# Altium footprint library MediaControllerPcbLib.PcbLib: 28 footprints (part 1 of 2)
Each footprint in its own frame and in the unit in brackets; x right, y up, seen from the top. Pads: shape width x height; smd on the part's side, far side on the other; paste and mask are expansions set on the pad; w line width, h text height; cw(c..) or ccw(c..) is an arc to the next point about the centre after c.
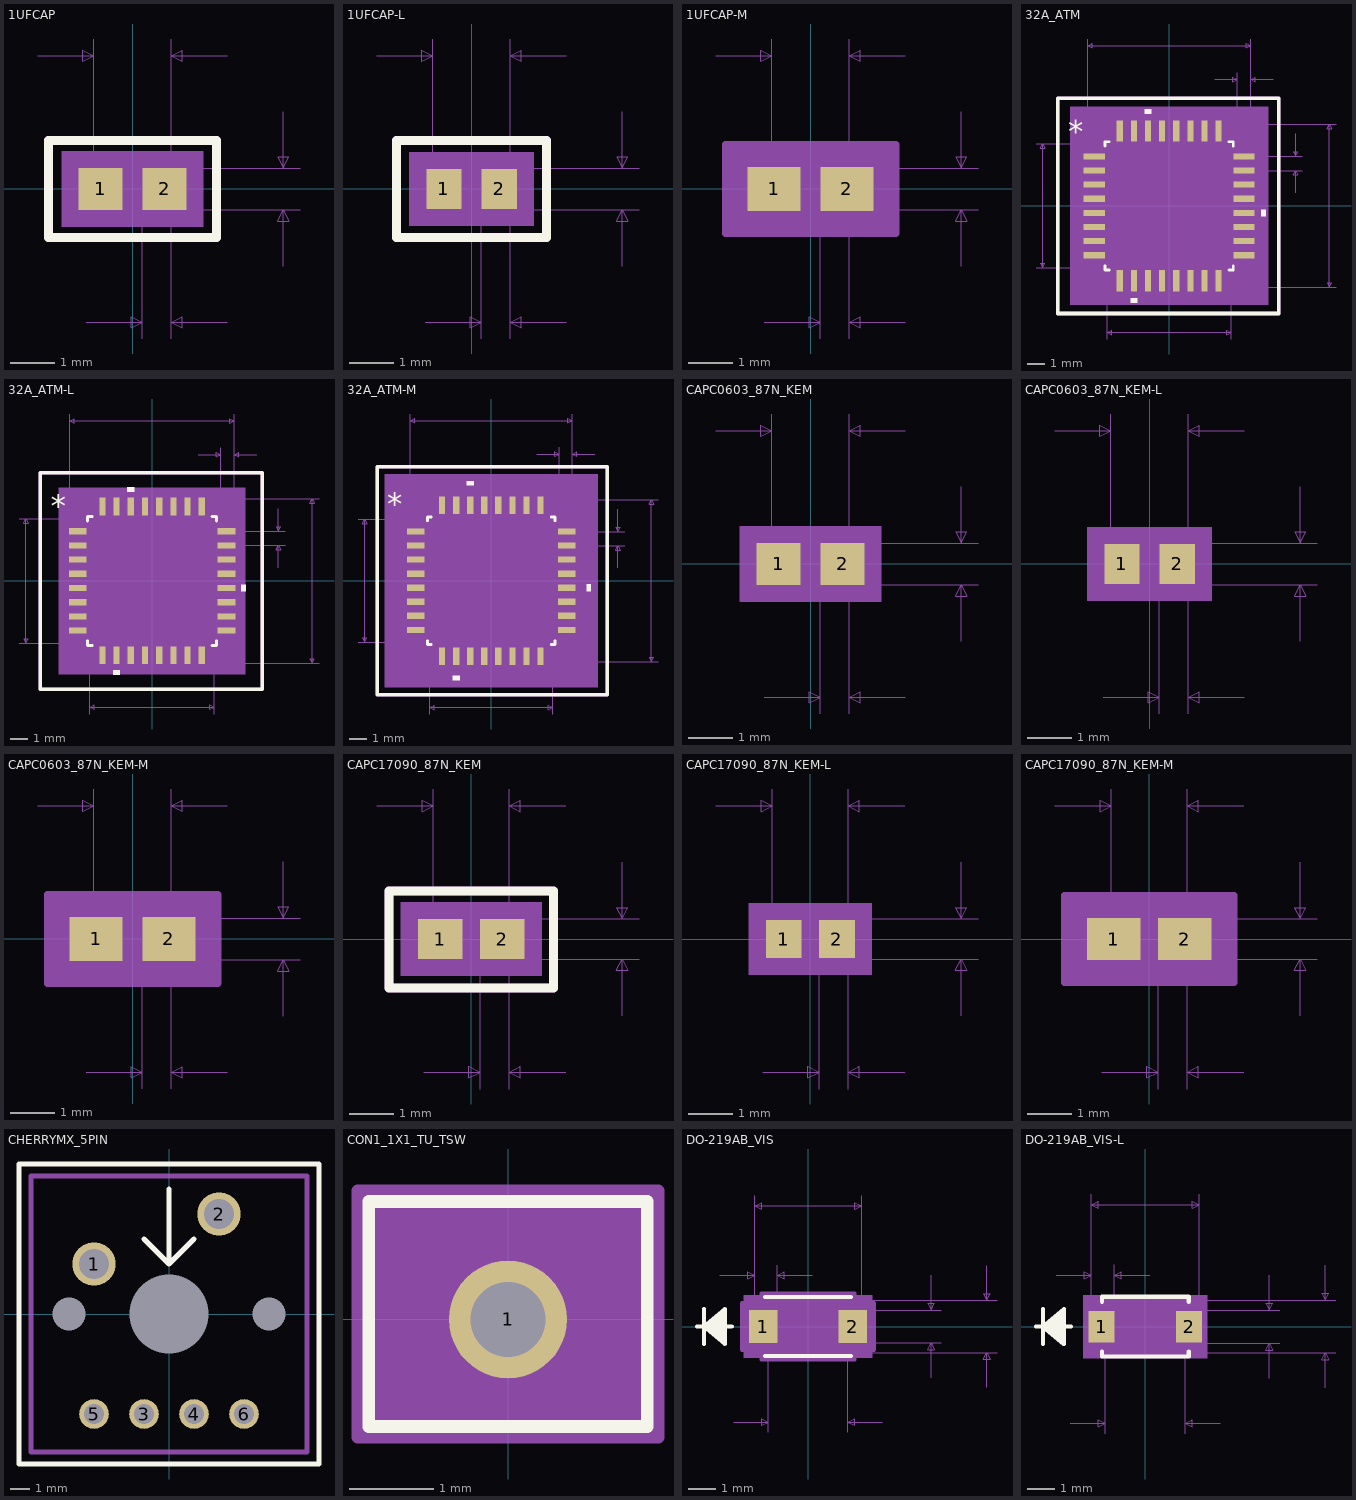
[diagram p0: the footprints below, top view; thin cyan lines are the x and y axes]

## 1UFCAP [mm]
pads (2):
  rect 1x0.95 smd paste+0 mask+0: 1(-0.725,0) 2(0.725,0)
Top Overlay:
  lines w0.2: -1.9,-1.1 -1.9,1.1 1.9,1.1 1.9,-1.1 -1.9,-1.1
Mechanical 5:
  region: 1.606,-0.856 -1.606,-0.856 -1.606,0.856 1.606,0.856
Mechanical 7:
  lines w0.025: -2.145,3.015 -0.875,3.015 ; -1.045,-3.015 0.225,-3.015 ; -0.875,0 -0.875,3.396 ; 0,-0.475 3.796,-0.475 ; 0,0.475 3.796,0.475 ; 0.225,-3.396 0.225,0 ; 0.875,-3.396 0.875,0 0.875,3.396 ; 2.145,-3.015 0.875,-3.015 ; 2.145,3.015 0.875,3.015 ; 3.415,-1.745 3.415,-0.475 ; 3.415,1.745 3.415,0.475 ; -0.875,3.015 -1.129,3.142 -1.129,2.888 -0.875,3.015 ; 0.225,-3.015 -0.029,-2.888 -0.029,-3.142 0.225,-3.015 ; 0.875,-3.015 1.129,-2.888 1.129,-3.142 0.875,-3.015 ; 0.875,3.015 1.129,3.142 1.129,2.888 0.875,3.015 ; 3.415,-0.475 3.288,-0.729 3.542,-0.729 3.415,-0.475 ; 3.415,0.475 3.288,0.729 3.542,0.729 3.415,0.475
  text "Default Padstyle: r100_95" at -7.938,-7.333 h1.27
  text "Alternate 1 Padstyle: b152_229h76" at -10.477,-9.873 h1.27
  text "Alternate 2 Padstyle: b229_152h76" at -10.477,-12.413 h1.27
  text "0.037in/0.95mm" at 3.923,-0.318 h0.64
  text "0.069in/1.75mm" at -2.222,3.523 h0.64
  text "0.02in/0.5mm" at -1.355,-4.158 h0.64
Mechanical 13:
  lines w0.025: -0.875,-0.475 -0.875,0.475 ; -0.875,-0.475 -0.375,-0.475 -0.375,0.475 -0.875,0.475 ; -0.875,-0.475 0.875,-0.475 ; -0.875,-0.475 -0.875,0.475 ; -0.875,0.475 0.875,0.475 ; 0.875,-0.475 0.375,-0.475 0.375,0.475 0.875,0.475 ; 0.875,-0.475 0.875,0.475 ; 0.875,-0.475 0.875,0.475
Mechanical 15:
  region: 1.479,-0.729 -1.479,-0.729 -1.479,0.729 1.479,0.729
  lines w0.152: -1.479,-0.729 -1.479,0.729 1.479,0.729 1.479,-0.729 -1.479,-0.729
Mechanical 29:
  lines w0.2: -1.9,-1.1 -1.9,1.1 1.9,1.1 1.9,-1.1 -1.9,-1.1
  text "`.Designator`" at -1.4,-0.167 h0.7
3D body "C0603C105K8PACTU.step": height 0.91, standoff 0.01, extent -0.875,-0.475 0.875,0.475
3D body: height 0.25, standoff 0, extent 0,0 0.254,0.254

## 1UFCAP-L [mm]
pads (2):
  rect 0.8x0.9 smd paste+0 mask+0: 1(-0.625,0) 2(0.625,0)
Top Overlay:
  lines w0.2: -1.7,-1.1 -1.7,1.1 1.7,1.1 1.7,-1.1 -1.7,-1.1
Mechanical 5:
  region: 1.406,-0.831 -1.406,-0.831 -1.406,0.831 1.406,0.831
Mechanical 7:
  lines w0.025: -2.145,3.015 -0.875,3.015 ; -1.045,-3.015 0.225,-3.015 ; -0.875,0 -0.875,3.396 ; 0,-0.475 3.796,-0.475 ; 0,0.475 3.796,0.475 ; 0.225,-3.396 0.225,0 ; 0.875,-3.396 0.875,0 0.875,3.396 ; 2.145,-3.015 0.875,-3.015 ; 2.145,3.015 0.875,3.015 ; 3.415,-1.745 3.415,-0.475 ; 3.415,1.745 3.415,0.475 ; -0.875,3.015 -1.129,2.888 -1.129,3.142 -0.875,3.015 ; 0.225,-3.015 -0.029,-3.142 -0.029,-2.888 0.225,-3.015 ; 0.875,-3.015 1.129,-3.142 1.129,-2.888 0.875,-3.015 ; 0.875,3.015 1.129,2.888 1.129,3.142 0.875,3.015 ; 3.415,-0.475 3.542,-0.729 3.288,-0.729 3.415,-0.475 ; 3.415,0.475 3.542,0.729 3.288,0.729 3.415,0.475
  text "0.02in/0.5mm" at -1.355,-4.158 h0.64
  text "0.069in/1.75mm" at -2.222,3.523 h0.64
  text "0.037in/0.95mm" at 3.923,-0.318 h0.64
  text "Alternate 2 Padstyle: b229_152h76" at -10.477,-12.388 h1.27
  text "Alternate 1 Padstyle: b152_229h76" at -10.477,-9.848 h1.27
  text "Default Padstyle: r80_90" at -7.62,-7.308 h1.27
Mechanical 13:
  lines w0.025: -0.875,-0.475 -0.875,0.475 ; -0.875,-0.475 0.875,-0.475 ; -0.875,-0.475 -0.375,-0.475 -0.375,0.475 -0.875,0.475 ; -0.875,-0.475 -0.875,0.475 ; -0.875,0.475 0.875,0.475 ; 0.875,-0.475 0.875,0.475 ; 0.875,-0.475 0.875,0.475 ; 0.875,-0.475 0.375,-0.475 0.375,0.475 0.875,0.475
Mechanical 15:
  region: 1.127,-0.552 -1.127,-0.552 -1.127,0.552 1.127,0.552
  lines w0.152: -1.127,-0.552 1.127,-0.552 1.127,0.552 -1.127,0.552 -1.127,-0.552
Mechanical 29:
  lines w0.2: -1.7,-1.1 -1.7,1.1 1.7,1.1 1.7,-1.1 -1.7,-1.1
  text "`.Designator`" at -1.3,-0.167 h0.7
3D body "C0603C105K8PACTU.step": height 0.91, standoff 0.01, extent -0.875,-0.475 0.875,0.475
3D body: height 0.25, standoff 0, extent 0,0 0.254,0.254

## 1UFCAP-M [mm]
pads (2):
  rect 1.2x1 smd paste+0 mask+0: 1(-0.825,0) 2(0.825,0)
Mechanical 5:
  region: 1.806,-0.881 -1.806,-0.881 -1.806,0.881 1.806,0.881
Mechanical 7:
  lines w0.025: -2.145,3.015 -0.875,3.015 ; -1.045,-3.015 0.225,-3.015 ; -0.875,0 -0.875,3.396 ; 0,-0.475 3.796,-0.475 ; 0,0.475 3.796,0.475 ; 0.225,-3.396 0.225,0 ; 0.875,-3.396 0.875,0 0.875,3.396 ; 2.145,-3.015 0.875,-3.015 ; 2.145,3.015 0.875,3.015 ; 3.415,-1.745 3.415,-0.475 ; 3.415,1.745 3.415,0.475 ; -0.875,3.015 -1.129,3.142 -1.129,2.888 -0.875,3.015 ; 0.225,-3.015 -0.029,-2.888 -0.029,-3.142 0.225,-3.015 ; 0.875,-3.015 1.129,-2.888 1.129,-3.142 0.875,-3.015 ; 0.875,3.015 1.129,3.142 1.129,2.888 0.875,3.015 ; 3.415,-0.475 3.288,-0.729 3.542,-0.729 3.415,-0.475 ; 3.415,0.475 3.288,0.729 3.542,0.729 3.415,0.475
  text "Default Padstyle: r120_100" at -8.255,-7.358 h1.27
  text "Alternate 1 Padstyle: b152_229h76" at -10.477,-9.898 h1.27
  text "Alternate 2 Padstyle: b229_152h76" at -10.477,-12.438 h1.27
  text "0.037in/0.95mm" at 3.923,-0.318 h0.64
  text "0.069in/1.75mm" at -2.222,3.523 h0.64
  text "0.02in/0.5mm" at -1.355,-4.158 h0.64
Mechanical 13:
  lines w0.025: -0.875,-0.475 -0.875,0.475 ; -0.875,-0.475 -0.375,-0.475 -0.375,0.475 -0.875,0.475 ; -0.875,-0.475 0.875,-0.475 ; -0.875,-0.475 -0.875,0.475 ; -0.875,0.475 0.875,0.475 ; 0.875,-0.475 0.375,-0.475 0.375,0.475 0.875,0.475 ; 0.875,-0.475 0.875,0.475 ; 0.875,-0.475 0.875,0.475
Mechanical 15:
  region: 1.933,-1.008 -1.933,-1.008 -1.933,1.008 1.933,1.008
  lines w0.152: -1.933,-1.008 -1.933,1.008 1.933,1.008 1.933,-1.008 -1.933,-1.008
3D body "C0603C105K8PACTU.step": height 0.91, standoff 0.01, extent -0.875,-0.475 0.875,0.475
3D body: height 0.25, standoff 0, extent 0,0 0.254,0.254

## 32A_ATM [mm]
pads (32):
  rect 1.2x0.35 smd: 1(-4.242,2.8) 2(-4.242,2) 3(-4.242,1.2) 4(-4.242,0.4) 5(-4.242,-0.4) 6(-4.242,-1.2) 7(-4.242,-2) 8(-4.242,-2.8) 17(4.242,-2.8) 18(4.242,-2) 19(4.242,-1.2) 20(4.242,-0.4) 21(4.242,0.4) 22(4.242,1.2) 23(4.242,2) 24(4.242,2.8)
  rect 0.35x1.2 smd: 9(-2.8,-4.242) 10(-2,-4.242) 11(-1.2,-4.242) 12(-0.4,-4.242) 13(0.4,-4.242) 14(1.2,-4.242) 15(2,-4.242) 16(2.8,-4.242) 25(2.8,4.242) 26(2,4.242) 27(1.2,4.242) 28(0.4,4.242) 29(-0.4,4.242) 30(-1.2,4.242) 31(-2,4.242) 32(-2.8,4.242)
Top Overlay:
  region: -1.81,-5.227 -2.191,-5.227 -2.191,-5.481 -1.81,-5.481
  region: 5.227,-0.209 5.481,-0.209 5.481,-0.59 5.227,-0.59
  region: -1.01,5.227 -1.391,5.227 -1.391,5.481 -1.01,5.481
  lines w0.152: -3.632,-3.391 -3.632,-3.632 -3.391,-3.632 ; -3.632,3.391 -3.632,3.632 -3.391,3.632 ; 3.391,-3.632 3.632,-3.632 3.632,-3.391 ; 3.391,3.632 3.632,3.632 3.632,3.391
  lines w0.2: -6.3,-6.1 6.2,-6.1 6.2,6.1 -6.3,6.1 -6.3,-6.1
  text "*" at -5.725,3.6 h1.27
Mechanical 5:
  region: 5.608,-5.608 -5.608,-5.608 -5.608,5.608 5.608,5.608
Mechanical 7:
  lines w0.025: -7.544,-3.505 -2.8,-3.505 ; -7.544,3.505 -2.8,3.505 ; -4.623,2.8 -4.623,9.449 ; -3.505,-7.544 -3.505,-2.8 ; 2.591,7.163 3.861,7.163 ; 2.8,-4.623 9.449,-4.623 ; 2.8,4.623 9.449,4.623 ; 3.505,-7.544 3.505,-2.8 ; 3.861,2.8 3.861,7.544 ; 4.242,2 7.544,2 ; 4.242,2.8 7.544,2.8 ; 4.623,7.544 4.623,2.8 4.623,9.449 ; 5.893,7.163 4.623,7.163 ; 7.163,0.73 7.163,2 ; 7.163,4.07 7.163,2.8 ; -7.163,-3.505 -7.163,3.505 ; -7.163,-3.505 -7.29,-3.251 -7.036,-3.251 -7.163,-3.505 ; -7.163,3.505 -7.29,3.251 -7.036,3.251 -7.163,3.505 ; -4.623,9.068 4.623,9.068 ; -4.623,9.068 -4.369,9.195 -4.369,8.941 -4.623,9.068 ; -3.505,-7.163 3.505,-7.163 ; -3.505,-7.163 -3.251,-7.036 -3.251,-7.29 -3.505,-7.163 ; 3.505,-7.163 3.251,-7.036 3.251,-7.29 3.505,-7.163 ; 3.861,7.163 3.607,7.29 3.607,7.036 3.861,7.163 ; 4.623,7.163 4.877,7.29 4.877,7.036 4.623,7.163 ; 4.623,9.068 4.369,9.195 4.369,8.941 4.623,9.068 ; 7.163,2 7.036,1.746 7.29,1.746 7.163,2 ; 7.163,2.8 7.036,3.054 7.29,3.054 7.163,2.8 ; 9.068,-4.623 9.068,4.623 ; 9.068,-4.623 8.941,-4.369 9.195,-4.369 9.068,-4.623 ; 9.068,4.623 8.941,4.369 9.195,4.369 9.068,4.623
  text "Default Horiz Padstyle: r52_146" at -9.842,-11.608 h1.27
  text "Default Vert Padstyle: r52_146" at -9.525,-12.878 h1.27
  text "0.031in/0.8mm" at 7.671,2.083 h0.64
  text "0.03in/0.762mm" at 2.019,7.671 h0.64
  text "0.364in/9.246mm" at -2.381,9.576 h0.64
  text "0.364in/9.246mm" at 9.576,-0.318 h0.64
  text "0.276in/7.01mm" at -2.222,-8.306 h0.64
  text "0.276in/7.01mm" at -12.116,-0.318 h0.64
Mechanical 13:
  lines w0.025: -3.505,2.235 -2.235,3.505 ; -4.623,-3.029 -4.623,-2.571 -3.505,-2.571 -3.505,-3.029 -4.623,-3.029 ; -4.623,-2.229 -4.623,-1.771 -3.505,-1.771 -3.505,-2.229 -4.623,-2.229 ; -4.623,-1.429 -4.623,-0.971 -3.505,-0.971 -3.505,-1.429 -4.623,-1.429 ; -4.623,-0.629 -4.623,-0.171 -3.505,-0.171 -3.505,-0.629 -4.623,-0.629 ; -4.623,0.171 -4.623,0.629 -3.505,0.629 -3.505,0.171 -4.623,0.171 ; -4.623,0.971 -4.623,1.429 -3.505,1.429 -3.505,0.971 -4.623,0.971 ; -4.623,1.771 -4.623,2.229 -3.505,2.229 -3.505,1.771 -4.623,1.771 ; -4.623,2.571 -4.623,3.029 -3.505,3.029 -3.505,2.571 -4.623,2.571 ; -3.505,-3.505 3.505,-3.505 3.505,3.505 -3.505,3.505 -3.505,-3.505 ; -3.029,-4.623 -3.029,-3.505 -2.571,-3.505 -2.571,-4.623 -3.029,-4.623 ; -3.029,3.505 -2.571,3.505 -2.571,4.623 -3.029,4.623 -3.029,3.505 ; -2.229,-4.623 -2.229,-3.505 -1.771,-3.505 -1.771,-4.623 -2.229,-4.623 ; -2.229,3.505 -1.771,3.505 -1.771,4.623 -2.229,4.623 -2.229,3.505 ; -1.429,-4.623 -1.429,-3.505 -0.971,-3.505 -0.971,-4.623 -1.429,-4.623 ; -1.429,3.505 -0.971,3.505 -0.971,4.623 -1.429,4.623 -1.429,3.505 ; -0.629,-4.623 -0.629,-3.505 -0.171,-3.505 -0.171,-4.623 -0.629,-4.623 ; -0.629,3.505 -0.171,3.505 -0.171,4.623 -0.629,4.623 -0.629,3.505 ; 0.171,-4.623 0.171,-3.505 0.629,-3.505 0.629,-4.623 0.171,-4.623 ; 0.171,3.505 0.629,3.505 0.629,4.623 0.171,4.623 0.171,3.505 ; 0.971,-4.623 0.971,-3.505 1.429,-3.505 1.429,-4.623 0.971,-4.623 ; 0.971,3.505 1.429,3.505 1.429,4.623 0.971,4.623 0.971,3.505 ; 1.771,-4.623 1.771,-3.505 2.229,-3.505 2.229,-4.623 1.771,-4.623 ; 1.771,3.505 2.229,3.505 2.229,4.623 1.771,4.623 1.771,3.505 ; 2.571,-4.623 2.571,-3.505 3.029,-3.505 3.029,-4.623 2.571,-4.623 ; 2.571,3.505 3.029,3.505 3.029,4.623 2.571,4.623 2.571,3.505 ; 3.505,-3.029 3.505,-2.571 4.623,-2.571 4.623,-3.029 3.505,-3.029 ; 3.505,-2.229 3.505,-1.771 4.623,-1.771 4.623,-2.229 3.505,-2.229 ; 3.505,-1.429 3.505,-0.971 4.623,-0.971 4.623,-1.429 3.505,-1.429 ; 3.505,-0.629 3.505,-0.171 4.623,-0.171 4.623,-0.629 3.505,-0.629 ; 3.505,0.171 3.505,0.629 4.623,0.629 4.623,0.171 3.505,0.171 ; 3.505,0.971 3.505,1.429 4.623,1.429 4.623,0.971 3.505,0.971 ; 3.505,1.771 3.505,2.229 4.623,2.229 4.623,1.771 3.505,1.771 ; 3.505,2.571 3.505,3.029 4.623,3.029 4.623,2.571 3.505,2.571
  text "*" at -3.32,2.184 h1.27
Mechanical 15:
  region: -3.308,-3.759 -3.759,-3.759 -3.759,-3.308 -5.227,-3.308 -5.227,3.308 -3.759,3.308 -3.759,3.759 -3.308,3.759 -3.308,5.227 3.308,5.227 3.308,3.759 3.759,3.759 3.759,3.308 5.227,3.308 5.227,-3.308 3.759,-3.308 3.759,-3.759 3.308,-3.759 3.308,-5.227 -3.308,-5.227
  lines w0.152: -5.227,-3.308 -3.759,-3.308 -3.759,-3.759 -3.308,-3.759 -3.308,-5.227 3.308,-5.227 3.308,-3.759 3.759,-3.759 3.759,-3.308 5.227,-3.308 5.227,3.308 3.759,3.308 3.759,3.759 3.308,3.759 3.308,5.227 -3.308,5.227 -3.308,3.759 -3.759,3.759 -3.759,3.308 -5.227,3.308 -5.227,-3.308
Mechanical 29:
  region: -1.01,5.221 -1.391,5.221 -1.391,5.475 -1.01,5.475
  region: 5.221,-0.209 5.475,-0.209 5.475,-0.59 5.221,-0.59
  region: -1.81,-5.225 -2.191,-5.225 -2.191,-5.479 -1.81,-5.479
  lines w0.152: -3.632,-3.411 -3.632,-3.632 -3.411,-3.632 ; -3.632,3.411 -3.632,3.632 -3.411,3.632 ; 3.411,-3.632 3.632,-3.632 3.632,-3.411 ; 3.411,3.632 3.632,3.632 3.632,3.411
  lines w0.2: -6.3,-6.1 6.2,-6.1 6.2,6.1 -6.3,6.1 -6.3,-6.1
  text "*" at -5.8,3.6 h1.27
  text "`.Designator`" at -3.3,-0.167 h0.7
3D body "32A_ATM.step": height 1.2, standoff 0, extent -4.623,-4.623 4.623,4.623
3D body: height 0.25, standoff 0, extent 0,0 0.254,0.254

## 32A_ATM-L [mm]
pads (32):
  rect 1x0.35 smd: 1(-4.192,2.8) 2(-4.192,2) 3(-4.192,1.2) 4(-4.192,0.4) 5(-4.192,-0.4) 6(-4.192,-1.2) 7(-4.192,-2) 8(-4.192,-2.8) 17(4.192,-2.8) 18(4.192,-2) 19(4.192,-1.2) 20(4.192,-0.4) 21(4.192,0.4) 22(4.192,1.2) 23(4.192,2) 24(4.192,2.8)
  rect 0.35x1 smd: 9(-2.8,-4.192) 10(-2,-4.192) 11(-1.2,-4.192) 12(-0.4,-4.192) 13(0.4,-4.192) 14(1.2,-4.192) 15(2,-4.192) 16(2.8,-4.192) 25(2.8,4.192) 26(2,4.192) 27(1.2,4.192) 28(0.4,4.192) 29(-0.4,4.192) 30(-1.2,4.192) 31(-2,4.192) 32(-2.8,4.192)
Top Overlay:
  region: -1.01,5.027 -1.391,5.027 -1.391,5.281 -1.01,5.281
  region: 5.027,-0.209 5.281,-0.209 5.281,-0.59 5.027,-0.59
  region: -1.81,-5.027 -2.191,-5.027 -2.191,-5.281 -1.81,-5.281
  lines w0.152: -3.632,-3.371 -3.632,-3.632 -3.371,-3.632 ; -3.632,3.371 -3.632,3.632 -3.371,3.632 ; 3.371,-3.632 3.632,-3.632 3.632,-3.371 ; 3.371,3.632 3.632,3.632 3.632,3.371
  lines w0.2: -6.3,-6.1 6.2,-6.1 6.2,6.1 -6.3,6.1 -6.3,-6.1
  text "*" at -5.7,3.596 h1.27
Mechanical 5:
  region: 5.255,-5.255 -5.255,-5.255 -5.255,5.255 5.255,5.255
Mechanical 7:
  lines w0.025: -7.494,-3.505 -2.8,-3.505 ; -7.494,3.505 -2.8,3.505 ; -4.623,2.8 -4.623,9.399 ; -3.505,-7.494 -3.505,-2.8 ; 2.591,7.113 3.861,7.113 ; 2.8,-4.623 9.399,-4.623 ; 2.8,4.623 9.399,4.623 ; 3.505,-7.494 3.505,-2.8 ; 3.861,2.8 3.861,7.494 ; 4.192,2 7.494,2 ; 4.192,2.8 7.494,2.8 ; 4.623,7.494 4.623,2.8 4.623,9.399 ; 5.893,7.113 4.623,7.113 ; 7.113,0.73 7.113,2 ; 7.113,4.07 7.113,2.8 ; -7.113,-3.505 -6.986,-3.251 -7.24,-3.251 -7.113,-3.505 ; -7.113,-3.505 -7.113,3.505 ; -7.113,3.505 -6.986,3.251 -7.24,3.251 -7.113,3.505 ; -4.623,9.018 -4.369,8.891 -4.369,9.145 -4.623,9.018 ; -4.623,9.018 4.623,9.018 ; -3.505,-7.113 -3.251,-7.24 -3.251,-6.986 -3.505,-7.113 ; -3.505,-7.113 3.505,-7.113 ; 3.505,-7.113 3.251,-7.24 3.251,-6.986 3.505,-7.113 ; 3.861,7.113 3.607,6.986 3.607,7.24 3.861,7.113 ; 4.623,7.113 4.877,6.986 4.877,7.24 4.623,7.113 ; 4.623,9.018 4.369,8.891 4.369,9.145 4.623,9.018 ; 7.113,2 7.24,1.746 6.986,1.746 7.113,2 ; 7.113,2.8 7.24,3.054 6.986,3.054 7.113,2.8 ; 9.018,-4.623 9.145,-4.369 8.891,-4.369 9.018,-4.623 ; 9.018,-4.623 9.018,4.623 ; 9.018,4.623 9.145,4.369 8.891,4.369 9.018,4.623
  text "0.276in/7.01mm" at -12.066,-0.318 h0.64
  text "0.276in/7.01mm" at -2.222,-8.256 h0.64
  text "0.364in/9.246mm" at 9.526,-0.318 h0.64
  text "0.364in/9.246mm" at -2.381,9.526 h0.64
  text "0.03in/0.762mm" at 2.019,7.621 h0.64
  text "0.031in/0.8mm" at 7.621,2.083 h0.64
  text "Default Vert Padstyle: r48_116" at -9.525,-12.828 h1.27
  text "Default Horiz Padstyle: r48_116" at -9.842,-11.558 h1.27
Mechanical 13:
  lines w0.025: -3.505,2.235 -2.235,3.505 ; -4.623,-3.029 -3.505,-3.029 -3.505,-2.571 -4.623,-2.571 -4.623,-3.029 ; -4.623,-2.229 -3.505,-2.229 -3.505,-1.771 -4.623,-1.771 -4.623,-2.229 ; -4.623,-1.429 -3.505,-1.429 -3.505,-0.971 -4.623,-0.971 -4.623,-1.429 ; -4.623,-0.629 -3.505,-0.629 -3.505,-0.171 -4.623,-0.171 -4.623,-0.629 ; -4.623,0.171 -3.505,0.171 -3.505,0.629 -4.623,0.629 -4.623,0.171 ; -4.623,0.971 -3.505,0.971 -3.505,1.429 -4.623,1.429 -4.623,0.971 ; -4.623,1.771 -3.505,1.771 -3.505,2.229 -4.623,2.229 -4.623,1.771 ; -4.623,2.571 -3.505,2.571 -3.505,3.029 -4.623,3.029 -4.623,2.571 ; -3.505,-3.505 -3.505,3.505 3.505,3.505 3.505,-3.505 -3.505,-3.505 ; -3.029,-4.623 -2.571,-4.623 -2.571,-3.505 -3.029,-3.505 -3.029,-4.623 ; -3.029,3.505 -3.029,4.623 -2.571,4.623 -2.571,3.505 -3.029,3.505 ; -2.229,-4.623 -1.771,-4.623 -1.771,-3.505 -2.229,-3.505 -2.229,-4.623 ; -2.229,3.505 -2.229,4.623 -1.771,4.623 -1.771,3.505 -2.229,3.505 ; -1.429,-4.623 -0.971,-4.623 -0.971,-3.505 -1.429,-3.505 -1.429,-4.623 ; -1.429,3.505 -1.429,4.623 -0.971,4.623 -0.971,3.505 -1.429,3.505 ; -0.629,-4.623 -0.171,-4.623 -0.171,-3.505 -0.629,-3.505 -0.629,-4.623 ; -0.629,3.505 -0.629,4.623 -0.171,4.623 -0.171,3.505 -0.629,3.505 ; 0.171,-4.623 0.629,-4.623 0.629,-3.505 0.171,-3.505 0.171,-4.623 ; 0.171,3.505 0.171,4.623 0.629,4.623 0.629,3.505 0.171,3.505 ; 0.971,-4.623 1.429,-4.623 1.429,-3.505 0.971,-3.505 0.971,-4.623 ; 0.971,3.505 0.971,4.623 1.429,4.623 1.429,3.505 0.971,3.505 ; 1.771,-4.623 2.229,-4.623 2.229,-3.505 1.771,-3.505 1.771,-4.623 ; 1.771,3.505 1.771,4.623 2.229,4.623 2.229,3.505 1.771,3.505 ; 2.571,-4.623 3.029,-4.623 3.029,-3.505 2.571,-3.505 2.571,-4.623 ; 2.571,3.505 2.571,4.623 3.029,4.623 3.029,3.505 2.571,3.505 ; 3.505,-3.029 4.623,-3.029 4.623,-2.571 3.505,-2.571 3.505,-3.029 ; 3.505,-2.229 4.623,-2.229 4.623,-1.771 3.505,-1.771 3.505,-2.229 ; 3.505,-1.429 4.623,-1.429 4.623,-0.971 3.505,-0.971 3.505,-1.429 ; 3.505,-0.629 4.623,-0.629 4.623,-0.171 3.505,-0.171 3.505,-0.629 ; 3.505,0.171 4.623,0.171 4.623,0.629 3.505,0.629 3.505,0.171 ; 3.505,0.971 4.623,0.971 4.623,1.429 3.505,1.429 3.505,0.971 ; 3.505,1.771 4.623,1.771 4.623,2.229 3.505,2.229 3.505,1.771 ; 3.505,2.571 4.623,2.571 4.623,3.029 3.505,3.029 3.505,2.571
  text "*" at -3.42,2.184 h1.27
Mechanical 15:
  region: -3.003,-3.607 -3.607,-3.607 -3.607,-3.003 -4.874,-3.003 -4.874,3.003 -3.607,3.003 -3.607,3.607 -3.003,3.607 -3.003,4.874 3.003,4.874 3.003,3.607 3.607,3.607 3.607,3.003 4.874,3.003 4.874,-3.003 3.607,-3.003 3.607,-3.607 3.003,-3.607 3.003,-4.874 -3.003,-4.874
  lines w0.152: -4.874,-3.003 -4.874,3.003 -3.607,3.003 -3.607,3.607 -3.003,3.607 -3.003,4.874 3.003,4.874 3.003,3.607 3.607,3.607 3.607,3.003 4.874,3.003 4.874,-3.003 3.607,-3.003 3.607,-3.607 3.003,-3.607 3.003,-4.874 -3.003,-4.874 -3.003,-3.607 -3.607,-3.607 -3.607,-3.003 -4.874,-3.003
Mechanical 29:
  region: -1.81,-5.025 -2.191,-5.025 -2.191,-5.279 -1.81,-5.279
  region: 5,-0.209 5.254,-0.209 5.254,-0.59 5,-0.59
  region: -1.01,5.025 -1.391,5.025 -1.391,5.279 -1.01,5.279
  lines w0.152: -3.632,-3.411 -3.632,-3.632 -3.411,-3.632 ; -3.632,3.411 -3.632,3.632 -3.411,3.632 ; 3.411,-3.632 3.632,-3.632 3.632,-3.411 ; 3.411,3.632 3.632,3.632 3.632,3.411
  lines w0.2: -6.3,-6.1 -6.3,6.1 6.2,6.1 6.2,-6.1 -6.3,-6.1
  text "*" at -5.775,3.6 h1.27
  text "`.Designator`" at -3.3,-0.167 h0.7
3D body "32A_ATM.step": height 1.2, standoff 0, extent -4.623,-4.623 4.623,4.623
3D body: height 0.25, standoff 0, extent 0,0 0.254,0.254

## 32A_ATM-M [mm]
pads (32):
  rect 1x0.35 smd: 1(-4.292,2.8) 2(-4.292,2) 3(-4.292,1.2) 4(-4.292,0.4) 5(-4.292,-0.4) 6(-4.292,-1.2) 7(-4.292,-2) 8(-4.292,-2.8) 17(4.292,-2.8) 18(4.292,-2) 19(4.292,-1.2) 20(4.292,-0.4) 21(4.292,0.4) 22(4.292,1.2) 23(4.292,2) 24(4.292,2.8)
  rect 0.35x1 smd: 9(-2.8,-4.292) 10(-2,-4.292) 11(-1.2,-4.292) 12(-0.4,-4.292) 13(0.4,-4.292) 14(1.2,-4.292) 15(2,-4.292) 16(2.8,-4.292) 25(2.8,4.292) 26(2,4.292) 27(1.2,4.292) 28(0.4,4.292) 29(-0.4,4.292) 30(-1.2,4.292) 31(-2,4.292) 32(-2.8,4.292)
Top Overlay:
  region: -1.81,-5.427 -2.191,-5.427 -2.191,-5.681 -1.81,-5.681
  region: 5.427,-0.209 5.681,-0.209 5.681,-0.59 5.427,-0.59
  region: -1.01,5.427 -1.391,5.427 -1.391,5.681 -1.01,5.681
  lines w0.152: -3.632,-3.411 -3.632,-3.632 -3.411,-3.632 ; -3.632,3.411 -3.632,3.632 -3.411,3.632 ; 3.411,-3.632 3.632,-3.632 3.632,-3.411 ; 3.411,3.632 3.632,3.632 3.632,3.411
  lines w0.2: -6.5,-6.5 -6.5,6.5 6.6,6.5 6.6,-6.5 -6.5,-6.5
  text "*" at -5.925,3.771 h1.27
Mechanical 5:
  region: 6.062,-6.062 -6.062,-6.062 -6.062,6.062 6.062,6.062
Mechanical 7:
  lines w0.025: -7.594,-3.505 -2.8,-3.505 ; -7.594,3.505 -2.8,3.505 ; -4.623,2.8 -4.623,9.499 ; -3.505,-7.594 -3.505,-2.8 ; 2.591,7.213 3.861,7.213 ; 2.8,-4.623 9.499,-4.623 ; 2.8,4.623 9.499,4.623 ; 3.505,-7.594 3.505,-2.8 ; 3.861,2.8 3.861,7.594 ; 4.292,2 7.594,2 ; 4.292,2.8 7.594,2.8 ; 4.623,7.594 4.623,2.8 4.623,9.499 ; 5.893,7.213 4.623,7.213 ; 7.213,0.73 7.213,2 ; 7.213,4.07 7.213,2.8 ; -7.213,-3.505 -7.213,3.505 ; -7.213,-3.505 -7.34,-3.251 -7.086,-3.251 -7.213,-3.505 ; -7.213,3.505 -7.34,3.251 -7.086,3.251 -7.213,3.505 ; -4.623,9.118 4.623,9.118 ; -4.623,9.118 -4.369,9.245 -4.369,8.991 -4.623,9.118 ; -3.505,-7.213 3.505,-7.213 ; -3.505,-7.213 -3.251,-7.086 -3.251,-7.34 -3.505,-7.213 ; 3.505,-7.213 3.251,-7.086 3.251,-7.34 3.505,-7.213 ; 3.861,7.213 3.607,7.34 3.607,7.086 3.861,7.213 ; 4.623,7.213 4.877,7.34 4.877,7.086 4.623,7.213 ; 4.623,9.118 4.369,9.245 4.369,8.991 4.623,9.118 ; 7.213,2 7.086,1.746 7.34,1.746 7.213,2 ; 7.213,2.8 7.086,3.054 7.34,3.054 7.213,2.8 ; 9.118,-4.623 9.118,4.623 ; 9.118,-4.623 8.991,-4.369 9.245,-4.369 9.118,-4.623 ; 9.118,4.623 8.991,4.369 9.245,4.369 9.118,4.623
  text "Default Horiz Padstyle: r56_176" at -9.842,-11.658 h1.27
  text "Default Vert Padstyle: r56_176" at -9.525,-12.928 h1.27
  text "0.031in/0.8mm" at 7.721,2.083 h0.64
  text "0.03in/0.762mm" at 2.019,7.721 h0.64
  text "0.364in/9.246mm" at -2.381,9.626 h0.64
  text "0.364in/9.246mm" at 9.626,-0.318 h0.64
  text "0.276in/7.01mm" at -2.222,-8.356 h0.64
  text "0.276in/7.01mm" at -12.166,-0.318 h0.64
Mechanical 13:
  lines w0.025: -3.505,2.235 -2.235,3.505 ; -4.623,-3.029 -4.623,-2.571 -3.505,-2.571 -3.505,-3.029 -4.623,-3.029 ; -4.623,-2.229 -4.623,-1.771 -3.505,-1.771 -3.505,-2.229 -4.623,-2.229 ; -4.623,-1.429 -4.623,-0.971 -3.505,-0.971 -3.505,-1.429 -4.623,-1.429 ; -4.623,-0.629 -4.623,-0.171 -3.505,-0.171 -3.505,-0.629 -4.623,-0.629 ; -4.623,0.171 -4.623,0.629 -3.505,0.629 -3.505,0.171 -4.623,0.171 ; -4.623,0.971 -4.623,1.429 -3.505,1.429 -3.505,0.971 -4.623,0.971 ; -4.623,1.771 -4.623,2.229 -3.505,2.229 -3.505,1.771 -4.623,1.771 ; -4.623,2.571 -4.623,3.029 -3.505,3.029 -3.505,2.571 -4.623,2.571 ; -3.505,-3.505 3.505,-3.505 3.505,3.505 -3.505,3.505 -3.505,-3.505 ; -3.029,-4.623 -3.029,-3.505 -2.571,-3.505 -2.571,-4.623 -3.029,-4.623 ; -3.029,3.505 -2.571,3.505 -2.571,4.623 -3.029,4.623 -3.029,3.505 ; -2.229,-4.623 -2.229,-3.505 -1.771,-3.505 -1.771,-4.623 -2.229,-4.623 ; -2.229,3.505 -1.771,3.505 -1.771,4.623 -2.229,4.623 -2.229,3.505 ; -1.429,-4.623 -1.429,-3.505 -0.971,-3.505 -0.971,-4.623 -1.429,-4.623 ; -1.429,3.505 -0.971,3.505 -0.971,4.623 -1.429,4.623 -1.429,3.505 ; -0.629,-4.623 -0.629,-3.505 -0.171,-3.505 -0.171,-4.623 -0.629,-4.623 ; -0.629,3.505 -0.171,3.505 -0.171,4.623 -0.629,4.623 -0.629,3.505 ; 0.171,-4.623 0.171,-3.505 0.629,-3.505 0.629,-4.623 0.171,-4.623 ; 0.171,3.505 0.629,3.505 0.629,4.623 0.171,4.623 0.171,3.505 ; 0.971,-4.623 0.971,-3.505 1.429,-3.505 1.429,-4.623 0.971,-4.623 ; 0.971,3.505 1.429,3.505 1.429,4.623 0.971,4.623 0.971,3.505 ; 1.771,-4.623 1.771,-3.505 2.229,-3.505 2.229,-4.623 1.771,-4.623 ; 1.771,3.505 2.229,3.505 2.229,4.623 1.771,4.623 1.771,3.505 ; 2.571,-4.623 2.571,-3.505 3.029,-3.505 3.029,-4.623 2.571,-4.623 ; 2.571,3.505 3.029,3.505 3.029,4.623 2.571,4.623 2.571,3.505 ; 3.505,-3.029 3.505,-2.571 4.623,-2.571 4.623,-3.029 3.505,-3.029 ; 3.505,-2.229 3.505,-1.771 4.623,-1.771 4.623,-2.229 3.505,-2.229 ; 3.505,-1.429 3.505,-0.971 4.623,-0.971 4.623,-1.429 3.505,-1.429 ; 3.505,-0.629 3.505,-0.171 4.623,-0.171 4.623,-0.629 3.505,-0.629 ; 3.505,0.171 3.505,0.629 4.623,0.629 4.623,0.171 3.505,0.171 ; 3.505,0.971 3.505,1.429 4.623,1.429 4.623,0.971 3.505,0.971 ; 3.505,1.771 3.505,2.229 4.623,2.229 4.623,1.771 3.505,1.771 ; 3.505,2.571 3.505,3.029 4.623,3.029 4.623,2.571 3.505,2.571
  text "*" at -3.22,2.184 h1.27
Mechanical 15:
  region: -3.816,-4.013 -4.013,-4.013 -4.013,-3.816 -5.681,-3.816 -5.681,3.816 -4.013,3.816 -4.013,4.013 -3.816,4.013 -3.816,5.681 3.816,5.681 3.816,4.013 4.013,4.013 4.013,3.816 5.681,3.816 5.681,-3.816 4.013,-3.816 4.013,-4.013 3.816,-4.013 3.816,-5.681 -3.816,-5.681
  lines w0.152: -5.681,-3.816 -4.013,-3.816 -4.013,-4.013 -3.816,-4.013 -3.816,-5.681 3.816,-5.681 3.816,-4.013 4.013,-4.013 4.013,-3.816 5.681,-3.816 5.681,3.816 4.013,3.816 4.013,4.013 3.816,4.013 3.816,5.681 -3.816,5.681 -3.816,4.013 -4.013,4.013 -4.013,3.816 -5.681,3.816 -5.681,-3.816
Mechanical 29:
  region: -1.81,-5.427 -2.191,-5.427 -2.191,-5.681 -1.81,-5.681
  region: 5.427,-0.209 5.681,-0.209 5.681,-0.59 5.427,-0.59
  region: -1.01,5.427 -1.391,5.427 -1.391,5.681 -1.01,5.681
  lines w0.152: -3.632,-3.411 -3.632,-3.632 -3.411,-3.632 ; -3.632,3.411 -3.632,3.632 -3.411,3.632 ; 3.411,-3.632 3.632,-3.632 3.632,-3.411 ; 3.411,3.632 3.632,3.632 3.632,3.411
  lines w0.2: -6.5,-6.5 -6.5,6.5 6.6,6.5 6.6,-6.5 -6.5,-6.5
  text "`.Designator`" at -3.3,-0.167 h0.7
  text "*" at -5.925,3.771 h1.27
3D body "32A_ATM.step": height 1.21, standoff 0.01, extent -4.623,-4.623 4.623,4.623
3D body: height 0.25, standoff 0, extent 0,0 0.254,0.254

## CAPC0603_87N_KEM [mm]
pads (2):
  rect 1x0.95 smd paste+0 mask+0: 1(-0.725,0) 2(0.725,0)
Mechanical 5:
  region: 1.606,-0.856 -1.606,-0.856 -1.606,0.856 1.606,0.856
Mechanical 7:
  lines w0.025: -2.145,3.015 -0.875,3.015 ; -1.045,-3.015 0.225,-3.015 ; -0.875,0 -0.875,3.396 ; 0,-0.475 3.796,-0.475 ; 0,0.475 3.796,0.475 ; 0.225,-3.396 0.225,0 ; 0.875,-3.396 0.875,0 0.875,3.396 ; 2.145,-3.015 0.875,-3.015 ; 2.145,3.015 0.875,3.015 ; 3.415,-1.745 3.415,-0.475 ; 3.415,1.745 3.415,0.475 ; -0.875,3.015 -1.129,2.888 -1.129,3.142 -0.875,3.015 ; 0.225,-3.015 -0.029,-3.142 -0.029,-2.888 0.225,-3.015 ; 0.875,-3.015 1.129,-3.142 1.129,-2.888 0.875,-3.015 ; 0.875,3.015 1.129,2.888 1.129,3.142 0.875,3.015 ; 3.415,-0.475 3.542,-0.729 3.288,-0.729 3.415,-0.475 ; 3.415,0.475 3.542,0.729 3.288,0.729 3.415,0.475
  text "0.02in/0.5mm" at -1.355,-4.158 h0.64
  text "0.069in/1.75mm" at -2.222,3.523 h0.64
  text "0.037in/0.95mm" at 3.923,-0.318 h0.64
  text "Alternate 2 Padstyle: b229_152h76" at -10.477,-12.413 h1.27
  text "Alternate 1 Padstyle: b152_229h76" at -10.477,-9.873 h1.27
  text "Default Padstyle: r100_95" at -7.938,-7.333 h1.27
Mechanical 13:
  lines w0.025: -0.875,-0.475 -0.875,0.475 ; -0.875,-0.475 0.875,-0.475 ; -0.875,-0.475 -0.375,-0.475 -0.375,0.475 -0.875,0.475 ; -0.875,-0.475 -0.875,0.475 ; -0.875,0.475 0.875,0.475 ; 0.875,-0.475 0.875,0.475 ; 0.875,-0.475 0.875,0.475 ; 0.875,-0.475 0.375,-0.475 0.375,0.475 0.875,0.475
Mechanical 15:
  region: 1.479,-0.729 -1.479,-0.729 -1.479,0.729 1.479,0.729
  lines w0.152: -1.479,-0.729 1.479,-0.729 1.479,0.729 -1.479,0.729 -1.479,-0.729
3D body: height 0.25, standoff 0, extent 0,0 0.254,0.254
3D body "C0603C103J5JACTU.step": height 0.88, standoff 0.01, extent -0.875,-0.475 0.875,0.475

## CAPC0603_87N_KEM-L [mm]
pads (2):
  rect 0.8x0.9 smd paste+0 mask+0: 1(-0.625,0) 2(0.625,0)
Mechanical 5:
  region: 1.406,-0.831 -1.406,-0.831 -1.406,0.831 1.406,0.831
Mechanical 7:
  lines w0.025: -2.145,3.015 -0.875,3.015 ; -1.045,-3.015 0.225,-3.015 ; -0.875,0 -0.875,3.396 ; 0,-0.475 3.796,-0.475 ; 0,0.475 3.796,0.475 ; 0.225,-3.396 0.225,0 ; 0.875,-3.396 0.875,0 0.875,3.396 ; 2.145,-3.015 0.875,-3.015 ; 2.145,3.015 0.875,3.015 ; 3.415,-1.745 3.415,-0.475 ; 3.415,1.745 3.415,0.475 ; -0.875,3.015 -1.129,3.142 -1.129,2.888 -0.875,3.015 ; 0.225,-3.015 -0.029,-2.888 -0.029,-3.142 0.225,-3.015 ; 0.875,-3.015 1.129,-2.888 1.129,-3.142 0.875,-3.015 ; 0.875,3.015 1.129,3.142 1.129,2.888 0.875,3.015 ; 3.415,-0.475 3.288,-0.729 3.542,-0.729 3.415,-0.475 ; 3.415,0.475 3.288,0.729 3.542,0.729 3.415,0.475
  text "Default Padstyle: r80_90" at -7.62,-7.308 h1.27
  text "Alternate 1 Padstyle: b152_229h76" at -10.477,-9.848 h1.27
  text "Alternate 2 Padstyle: b229_152h76" at -10.477,-12.388 h1.27
  text "0.037in/0.95mm" at 3.923,-0.318 h0.64
  text "0.069in/1.75mm" at -2.222,3.523 h0.64
  text "0.02in/0.5mm" at -1.355,-4.158 h0.64
Mechanical 13:
  lines w0.025: -0.875,-0.475 -0.875,0.475 ; -0.875,-0.475 -0.375,-0.475 -0.375,0.475 -0.875,0.475 ; -0.875,-0.475 0.875,-0.475 ; -0.875,-0.475 -0.875,0.475 ; -0.875,0.475 0.875,0.475 ; 0.875,-0.475 0.375,-0.475 0.375,0.475 0.875,0.475 ; 0.875,-0.475 0.875,0.475 ; 0.875,-0.475 0.875,0.475
Mechanical 15:
  region: 1.127,-0.552 -1.127,-0.552 -1.127,0.552 1.127,0.552
  lines w0.152: -1.127,-0.552 -1.127,0.552 1.127,0.552 1.127,-0.552 -1.127,-0.552
3D body "C0603C103J5JACTU.step": height 0.88, standoff 0.01, extent -0.875,-0.475 0.875,0.475
3D body: height 0.25, standoff 0, extent 0,0 0.254,0.254

## CAPC0603_87N_KEM-M [mm]
pads (2):
  rect 1.2x1 smd paste+0 mask+0: 1(-0.825,0) 2(0.825,0)
Mechanical 5:
  region: 1.806,-0.881 -1.806,-0.881 -1.806,0.881 1.806,0.881
Mechanical 7:
  lines w0.025: -2.145,3.015 -0.875,3.015 ; -1.045,-3.015 0.225,-3.015 ; -0.875,0 -0.875,3.396 ; 0,-0.475 3.796,-0.475 ; 0,0.475 3.796,0.475 ; 0.225,-3.396 0.225,0 ; 0.875,-3.396 0.875,0 0.875,3.396 ; 2.145,-3.015 0.875,-3.015 ; 2.145,3.015 0.875,3.015 ; 3.415,-1.745 3.415,-0.475 ; 3.415,1.745 3.415,0.475 ; -0.875,3.015 -1.129,3.142 -1.129,2.888 -0.875,3.015 ; 0.225,-3.015 -0.029,-2.888 -0.029,-3.142 0.225,-3.015 ; 0.875,-3.015 1.129,-2.888 1.129,-3.142 0.875,-3.015 ; 0.875,3.015 1.129,3.142 1.129,2.888 0.875,3.015 ; 3.415,-0.475 3.288,-0.729 3.542,-0.729 3.415,-0.475 ; 3.415,0.475 3.288,0.729 3.542,0.729 3.415,0.475
  text "Default Padstyle: r120_100" at -8.255,-7.358 h1.27
  text "Alternate 1 Padstyle: b152_229h76" at -10.477,-9.898 h1.27
  text "Alternate 2 Padstyle: b229_152h76" at -10.477,-12.438 h1.27
  text "0.037in/0.95mm" at 3.923,-0.318 h0.64
  text "0.069in/1.75mm" at -2.222,3.523 h0.64
  text "0.02in/0.5mm" at -1.355,-4.158 h0.64
Mechanical 13:
  lines w0.025: -0.875,-0.475 -0.875,0.475 ; -0.875,-0.475 -0.375,-0.475 -0.375,0.475 -0.875,0.475 ; -0.875,-0.475 0.875,-0.475 ; -0.875,-0.475 -0.875,0.475 ; -0.875,0.475 0.875,0.475 ; 0.875,-0.475 0.375,-0.475 0.375,0.475 0.875,0.475 ; 0.875,-0.475 0.875,0.475 ; 0.875,-0.475 0.875,0.475
Mechanical 15:
  region: 1.933,-1.008 -1.933,-1.008 -1.933,1.008 1.933,1.008
  lines w0.152: -1.933,-1.008 -1.933,1.008 1.933,1.008 1.933,-1.008 -1.933,-1.008
3D body: height 0.25, standoff 0, extent 0,0 0.254,0.254
3D body "C0603C103J5JACTU.step": height 0.88, standoff 0.01, extent -0.875,-0.475 0.875,0.475

## CAPC17090_87N_KEM [mm]
pads (2):
  rect 1x0.9 smd paste+0 mask+0: 1(-0.7,0) 2(0.7,0)
Top Overlay:
  lines w0.2: -1.85,-1.1 -1.85,1.075 1.85,1.075 1.85,-1.1 -1.85,-1.1
Mechanical 5:
  region: 1.581,-0.831 -1.581,-0.831 -1.581,0.831 1.581,0.831
Mechanical 7:
  lines w0.025: -2.12,2.99 -0.85,2.99 ; -1.07,-2.99 0.2,-2.99 ; -0.85,0 -0.85,3.371 ; 0,-0.45 3.771,-0.45 ; 0,0.45 3.771,0.45 ; 0.2,-3.371 0.2,0 ; 0.85,-3.371 0.85,0 0.85,3.371 ; 2.12,-2.99 0.85,-2.99 ; 2.12,2.99 0.85,2.99 ; 3.39,-1.72 3.39,-0.45 ; 3.39,1.72 3.39,0.45 ; -0.85,2.99 -1.104,3.117 -1.104,2.863 -0.85,2.99 ; 0.2,-2.99 -0.054,-2.863 -0.054,-3.117 0.2,-2.99 ; 0.85,-2.99 1.104,-2.863 1.104,-3.117 0.85,-2.99 ; 0.85,2.99 1.104,3.117 1.104,2.863 0.85,2.99 ; 3.39,-0.45 3.263,-0.704 3.517,-0.704 3.39,-0.45 ; 3.39,0.45 3.263,0.704 3.517,0.704 3.39,0.45
  text "Default Padstyle: r100_90" at -7.938,-7.308 h1.27
  text "Alternate 1 Padstyle: b152_229h76" at -10.477,-9.848 h1.27
  text "Alternate 2 Padstyle: b229_152h76" at -10.477,-12.388 h1.27
  text "0.035in/0.9mm" at 3.898,-0.318 h0.64
  text "0.067in/1.7mm" at -2.064,3.498 h0.64
  text "0.022in/0.55mm" at -1.697,-4.133 h0.64
Mechanical 13:
  lines w0.025: -0.85,-0.45 -0.85,0.45 ; -0.85,-0.45 -0.3,-0.45 -0.3,0.45 -0.85,0.45 ; -0.85,-0.45 0.85,-0.45 ; -0.85,-0.45 -0.85,0.45 ; -0.85,0.45 0.85,0.45 ; 0.85,-0.45 0.3,-0.45 0.3,0.45 0.85,0.45 ; 0.85,-0.45 0.85,0.45 ; 0.85,-0.45 0.85,0.45
Mechanical 15:
  region: 1.454,-0.704 -1.454,-0.704 -1.454,0.704 1.454,0.704
  lines w0.152: -1.454,-0.704 -1.454,0.704 1.454,0.704 1.454,-0.704 -1.454,-0.704
Mechanical 29:
  lines w0.2: -1.85,-1.1 -1.85,1.075 1.85,1.075 1.85,-1.1 -1.85,-1.1
  text "`.Designator`" at -1.525,-0.192 h0.7
3D body: height 0.25, standoff 0, extent 0,0 0.254,0.254
3D body "CBR06C100J5GAC.step": height 0.88, standoff 0.01, extent -0.85,-0.45 0.85,0.45

## CAPC17090_87N_KEM-L [mm]
pads (2):
  rect 0.8x0.85 smd paste+0 mask+0: 1(-0.6,0) 2(0.6,0)
Mechanical 5:
  region: 1.381,-0.806 -1.381,-0.806 -1.381,0.806 1.381,0.806
Mechanical 7:
  lines w0.025: -2.12,2.99 -0.85,2.99 ; -1.07,-2.99 0.2,-2.99 ; -0.85,0 -0.85,3.371 ; 0,-0.45 3.771,-0.45 ; 0,0.45 3.771,0.45 ; 0.2,-3.371 0.2,0 ; 0.85,-3.371 0.85,0 0.85,3.371 ; 2.12,-2.99 0.85,-2.99 ; 2.12,2.99 0.85,2.99 ; 3.39,-1.72 3.39,-0.45 ; 3.39,1.72 3.39,0.45 ; -0.85,2.99 -1.104,3.117 -1.104,2.863 -0.85,2.99 ; 0.2,-2.99 -0.054,-2.863 -0.054,-3.117 0.2,-2.99 ; 0.85,-2.99 1.104,-2.863 1.104,-3.117 0.85,-2.99 ; 0.85,2.99 1.104,3.117 1.104,2.863 0.85,2.99 ; 3.39,-0.45 3.263,-0.704 3.517,-0.704 3.39,-0.45 ; 3.39,0.45 3.263,0.704 3.517,0.704 3.39,0.45
  text "Default Padstyle: r80_85" at -7.62,-7.283 h1.27
  text "Alternate 1 Padstyle: b152_229h76" at -10.477,-9.823 h1.27
  text "Alternate 2 Padstyle: b229_152h76" at -10.477,-12.363 h1.27
  text "0.035in/0.9mm" at 3.898,-0.318 h0.64
  text "0.067in/1.7mm" at -2.064,3.498 h0.64
  text "0.022in/0.55mm" at -1.697,-4.133 h0.64
Mechanical 13:
  lines w0.025: -0.85,-0.45 -0.85,0.45 ; -0.85,-0.45 -0.3,-0.45 -0.3,0.45 -0.85,0.45 ; -0.85,-0.45 0.85,-0.45 ; -0.85,-0.45 -0.85,0.45 ; -0.85,0.45 0.85,0.45 ; 0.85,-0.45 0.3,-0.45 0.3,0.45 0.85,0.45 ; 0.85,-0.45 0.85,0.45 ; 0.85,-0.45 0.85,0.45
Mechanical 15:
  region: 1.102,-0.527 -1.102,-0.527 -1.102,0.527 1.102,0.527
  lines w0.152: -1.102,-0.527 -1.102,0.527 1.102,0.527 1.102,-0.527 -1.102,-0.527
3D body: height 0.25, standoff 0, extent 0,0 0.254,0.254
3D body "CBR06C100J5GAC.step": height 0.88, standoff 0.01, extent -0.85,-0.45 0.85,0.45

## CAPC17090_87N_KEM-M [mm]
pads (2):
  rect 1.2x0.95 smd paste+0 mask+0: 1(-0.8,0) 2(0.8,0)
Mechanical 5:
  region: 1.781,-0.856 -1.781,-0.856 -1.781,0.856 1.781,0.856
Mechanical 7:
  lines w0.025: -2.12,2.99 -0.85,2.99 ; -1.07,-2.99 0.2,-2.99 ; -0.85,0 -0.85,3.371 ; 0,-0.45 3.771,-0.45 ; 0,0.45 3.771,0.45 ; 0.2,-3.371 0.2,0 ; 0.85,-3.371 0.85,0 0.85,3.371 ; 2.12,-2.99 0.85,-2.99 ; 2.12,2.99 0.85,2.99 ; 3.39,-1.72 3.39,-0.45 ; 3.39,1.72 3.39,0.45 ; -0.85,2.99 -1.104,2.863 -1.104,3.117 -0.85,2.99 ; 0.2,-2.99 -0.054,-3.117 -0.054,-2.863 0.2,-2.99 ; 0.85,-2.99 1.104,-3.117 1.104,-2.863 0.85,-2.99 ; 0.85,2.99 1.104,2.863 1.104,3.117 0.85,2.99 ; 3.39,-0.45 3.517,-0.704 3.263,-0.704 3.39,-0.45 ; 3.39,0.45 3.517,0.704 3.263,0.704 3.39,0.45
  text "0.022in/0.55mm" at -1.697,-4.133 h0.64
  text "0.067in/1.7mm" at -2.064,3.498 h0.64
  text "0.035in/0.9mm" at 3.898,-0.318 h0.64
  text "Alternate 2 Padstyle: b229_152h76" at -10.477,-12.413 h1.27
  text "Alternate 1 Padstyle: b152_229h76" at -10.477,-9.873 h1.27
  text "Default Padstyle: r120_95" at -7.938,-7.333 h1.27
Mechanical 13:
  lines w0.025: -0.85,-0.45 -0.85,0.45 ; -0.85,-0.45 0.85,-0.45 ; -0.85,-0.45 -0.3,-0.45 -0.3,0.45 -0.85,0.45 ; -0.85,-0.45 -0.85,0.45 ; -0.85,0.45 0.85,0.45 ; 0.85,-0.45 0.85,0.45 ; 0.85,-0.45 0.85,0.45 ; 0.85,-0.45 0.3,-0.45 0.3,0.45 0.85,0.45
Mechanical 15:
  region: 1.908,-0.983 -1.908,-0.983 -1.908,0.983 1.908,0.983
  lines w0.152: -1.908,-0.983 1.908,-0.983 1.908,0.983 -1.908,0.983 -1.908,-0.983
3D body "CBR06C100J5GAC.step": height 0.88, standoff 0.01, extent -0.85,-0.45 0.85,0.45
3D body: height 0.25, standoff 0, extent 0,0 0.254,0.254

## CHERRYMX_5PIN [mm] "Cherry MX 5 pin mechanical keyboard switch"
height 12
pads (9):
  round 2.2 hole 1.5: 1(-3.81,2.54) 2(2.54,5.08)
  round 1.5 hole 1: 3(-1.27,-5.08) 4(1.27,-5.08) 5(-3.81,-5.08) 6(3.81,-5.08)
  round 0 hole 1.7: PE(-5.08,0) PE(5.08,0)
  round 0 hole 4: PE(0,0)
Top Overlay:
  lines w0.254: -1.27,3.81 0,2.54 ; 0,6.35 0,2.54 ; 1.27,3.81 0,2.54 ; -7.62,-7.62 7.62,-7.62 7.62,7.62 -7.62,7.62 -7.62,-7.62
Mechanical 4:
  lines w0.254: -7,-7 -7,7 7,7 7,-7 -7,-7
3D body "MX1A-E1NW--3DModel-STEP-56544.STEP": height 14.87, standoff -3.67, extent -7.747,-8.097 7.747,8.097

## CON1_1X1_TU_TSW [mil]
pads (1):
  round 55 hole 35 mask+0: 1(0,0)
Top Overlay:
  lines w6: -65,-50 65,-50 65,55 -65,55 -65,-50
Mechanical 5:
  region: -64.96,55.12 63.98,55.12 63.98,-51.18 -64.96,-51.18
Mechanical 13:
  circle w0: c0,0 r10
  lines w1: -60,-45 60,-45 60,50 -60,50 -60,-45
Mechanical 15:
  region: 70,60 50,60 -50,60 -70,60 -70,-55 -50,-55 50,-55 70,-55
  lines w6: -70,-55 -70,60 -50,60 50,60 70,60 70,-55 50,-55 -50,-55 -70,-55
3D body: height 10, standoff 0, extent 0,0 10,10
3D body "CON1_1X1_TU_TSW.step": height 500.5, standoff -199.5, extent -50,-50 50,50

## DO-219AB_VIS [mil]
pads (2):
  rect 40.87x47 smd paste+0 mask+0: 1(-64.44,0) 2(64.44,0)
Top Overlay:
  lines w6: -159.87,0 -109.87,0 ; -149.87,-25 -149.87,25 ; -119.87,-20 -149.87,0 ; -119.87,-15 -149.87,0 ; -119.87,-10 -149.87,0 ; -119.87,-5 -149.87,0 ; -119.87,5 -149.87,0 ; -119.87,10 -149.87,0 ; -119.87,15 -149.87,0 ; -119.87,20 -149.87,0 ; -62,-42.5 62,-42.5 ; -62,42.5 62,42.5 ; -149.87,0 -119.87,-25 -119.87,25 -149.87,0
Mechanical 5:
  region: 92.37,-45 -92.37,-45 -92.37,45 92.37,45
Mechanical 7:
  lines w1: -127,73.5 -77,73.5 ; -107,-137.5 -57,-137.5 ; -77,88.5 -77,0 -77,188.5 ; -57,-152.5 -57,0 ; -44,0 -44,88.5 ; 0,-37.5 272,-37.5 ; 0,37.5 272,37.5 ; 6,73.5 -44,73.5 ; 57,-152.5 57,0 ; 77,-23.5 192,-23.5 ; 77,0 77,188.5 ; 77,23.5 192,23.5 ; 107,-137.5 57,-137.5 ; 177,-73.5 177,-23.5 ; 177,73.5 177,23.5 ; 257,-87.5 257,-37.5 ; 257,87.5 257,37.5 ; -77,73.5 -87,68.5 -87,78.5 -77,73.5 ; -77,173.5 -67,168.5 -67,178.5 -77,173.5 ; -77,173.5 77,173.5 ; -57,-137.5 -67,-142.5 -67,-132.5 -57,-137.5 ; -44,73.5 -34,68.5 -34,78.5 -44,73.5 ; 57,-137.5 67,-142.5 67,-132.5 57,-137.5 ; 77,173.5 67,168.5 67,178.5 77,173.5 ; 177,-23.5 182,-33.5 172,-33.5 177,-23.5 ; 177,23.5 182,33.5 172,33.5 177,23.5 ; 257,-37.5 262,-47.5 252,-47.5 257,-37.5 ; 257,37.5 262,47.5 252,47.5 257,37.5
  text "0.114in/2.896mm" at -93.75,-182.5 h25
  text "0.075in/1.905mm" at 277,-12.5 h25
  text "0.047in/1.194mm" at 197,-12.5 h25
  text "0.033in/0.838mm" at -154.25,93.5 h25
  text "0.154in/3.912mm" at -93.75,193.5 h25
  text "Alt 2 Padstyle: b229_152h76" at -337.5,-498.5 h50
  text "Alt 1 Padstyle: b152_229h76" at -337.5,-423.5 h50
  text "Default Padstyle: r104_119" at -325,-348.5 h50
Mechanical 13:
  lines w1: -159.87,0 -109.87,0 ; -149.87,-25 -149.87,25 ; -119.87,-20 -149.87,0 ; -119.87,-15 -149.87,0 ; -119.87,-10 -149.87,0 ; -119.87,-5 -149.87,0 ; -119.87,5 -149.87,0 ; -119.87,10 -149.87,0 ; -119.87,15 -149.87,0 ; -119.87,20 -149.87,0 ; -57,-18.75 -38.25,-37.5 ; -57,18.75 -38.25,37.5 ; -149.87,0 -119.87,-25 -119.87,25 -149.87,0 ; -77,-23.5 -57,-23.5 -57,23.5 -77,23.5 -77,-23.5 ; -57,-37.5 -57,37.5 57,37.5 57,-37.5 -57,-37.5 ; 57,-23.5 77,-23.5 77,23.5 57,23.5 57,-23.5
Mechanical 15:
  region: -67,-33.5 -94.87,-33.5 -94.87,33.5 -67,33.5 -67,47.5 67,47.5 67,33.5 94.87,33.5 94.87,-33.5 67,-33.5 67,-47.5 -67,-47.5
  lines w6: -94.87,-33.5 -67,-33.5 -67,-47.5 67,-47.5 67,-33.5 94.87,-33.5 94.87,33.5 67,33.5 67,47.5 -67,47.5 -67,33.5 -94.87,33.5 -94.87,-33.5
3D body "DO-219AB_VIS.step": height 32.74, standoff 0.5, extent -77,-37.48 77.01,37.48
3D body: height 10, standoff 0, extent 0,0 10,10

## DO-219AB_VIS-L [mm]
pads (2):
  rect 0.938x1.144 smd paste+0 mask+0: 1(-1.587,0) 2(1.587,0)
Top Overlay:
  lines w0.152: -3.961,0 -2.691,0 ; -3.707,-0.635 -3.707,0.635 ; -2.945,-0.508 -3.707,0 ; -2.945,-0.381 -3.707,0 ; -2.945,-0.254 -3.707,0 ; -2.945,-0.127 -3.707,0 ; -2.945,0.127 -3.707,0 ; -2.945,0.254 -3.707,0 ; -2.945,0.381 -3.707,0 ; -2.945,0.508 -3.707,0 ; -1.575,-0.905 -1.575,-1.079 1.575,-1.079 1.575,-0.905 ; -1.575,0.905 -1.575,1.079 1.575,1.079 1.575,0.905 ; -3.707,0 -2.945,0.635 -2.945,-0.635 -3.707,0
Mechanical 5:
  region: 2.246,-1.143 -2.246,-1.143 -2.246,1.143 2.246,1.143
Mechanical 7:
  lines w0.025: -3.226,1.867 -1.956,1.867 ; -2.718,-3.492 -1.448,-3.492 ; -1.956,2.248 -1.956,0 -1.956,4.788 ; -1.448,-3.873 -1.448,0 ; -1.118,0 -1.118,2.248 ; 0,-0.953 6.909,-0.953 ; 0,0.953 6.909,0.953 ; 0.152,1.867 -1.118,1.867 ; 1.448,-3.873 1.448,0 ; 1.956,-0.597 4.877,-0.597 ; 1.956,0 1.956,4.788 ; 1.956,0.597 4.877,0.597 ; 2.718,-3.492 1.448,-3.492 ; 4.496,-1.867 4.496,-0.597 ; 4.496,1.867 4.496,0.597 ; 6.528,-2.222 6.528,-0.953 ; 6.528,2.222 6.528,0.953 ; -1.956,1.867 -2.21,1.994 -2.21,1.74 -1.956,1.867 ; -1.956,4.407 1.956,4.407 ; -1.956,4.407 -1.702,4.534 -1.702,4.28 -1.956,4.407 ; -1.448,-3.492 -1.702,-3.365 -1.702,-3.619 -1.448,-3.492 ; -1.118,1.867 -0.864,1.994 -0.864,1.74 -1.118,1.867 ; 1.448,-3.492 1.702,-3.365 1.702,-3.619 1.448,-3.492 ; 1.956,4.407 1.702,4.534 1.702,4.28 1.956,4.407 ; 4.496,-0.597 4.369,-0.851 4.623,-0.851 4.496,-0.597 ; 4.496,0.597 4.369,0.851 4.623,0.851 4.496,0.597 ; 6.528,-0.953 6.401,-1.206 6.655,-1.206 6.528,-0.953 ; 6.528,0.953 6.401,1.206 6.655,1.206 6.528,0.953
  text "Default Padstyle: r94_114" at -7.938,-8.827 h1.27
  text "Alt 1 Padstyle: b152_229h76" at -8.572,-10.732 h1.27
  text "Alt 2 Padstyle: b229_152h76" at -8.572,-12.637 h1.27
  text "0.154in/3.912mm" at -2.381,4.915 h0.64
  text "0.033in/0.838mm" at -3.918,2.375 h0.64
  text "0.047in/1.194mm" at 5.004,-0.318 h0.64
  text "0.075in/1.905mm" at 7.036,-0.318 h0.64
  text "0.114in/2.896mm" at -2.381,-4.635 h0.64
Mechanical 13:
  lines w0.025: -3.961,0 -2.691,0 ; -3.707,-0.635 -3.707,0.635 ; -2.945,-0.508 -3.707,0 ; -2.945,-0.381 -3.707,0 ; -2.945,-0.254 -3.707,0 ; -2.945,-0.127 -3.707,0 ; -2.945,0.127 -3.707,0 ; -2.945,0.254 -3.707,0 ; -2.945,0.381 -3.707,0 ; -2.945,0.508 -3.707,0 ; -1.448,-0.476 -0.972,-0.953 ; -1.448,0.476 -0.972,0.953 ; -3.707,0 -2.945,0.635 -2.945,-0.635 -3.707,0 ; -1.956,-0.597 -1.956,0.597 -1.448,0.597 -1.448,-0.597 -1.956,-0.597 ; -1.448,-0.953 1.448,-0.953 1.448,0.953 -1.448,0.953 -1.448,-0.953 ; 1.448,-0.597 1.448,0.597 1.956,0.597 1.956,-0.597 1.448,-0.597
Mechanical 15:
  region: -1.549,-0.674 -2.157,-0.674 -2.157,0.674 -1.549,0.674 -1.549,1.054 1.549,1.054 1.549,0.674 2.157,0.674 2.157,-0.674 1.549,-0.674 1.549,-1.054 -1.549,-1.054
  lines w0.152: -2.157,-0.674 -2.157,0.674 -1.549,0.674 -1.549,1.054 1.549,1.054 1.549,0.674 2.157,0.674 2.157,-0.674 1.549,-0.674 1.549,-1.054 -1.549,-1.054 -1.549,-0.674 -2.157,-0.674
3D body: height 0.25, standoff 0, extent 0,0 0.254,0.254
3D body "DO-219AB_VIS.step": height 0.83, standoff 0.01, extent -1.956,-0.952 1.956,0.952